# Altium schematic symbol library mcu_stm8.SchLib: 4 symbols
Pins are listed as number, name and electrical type; pins without a type are passive.

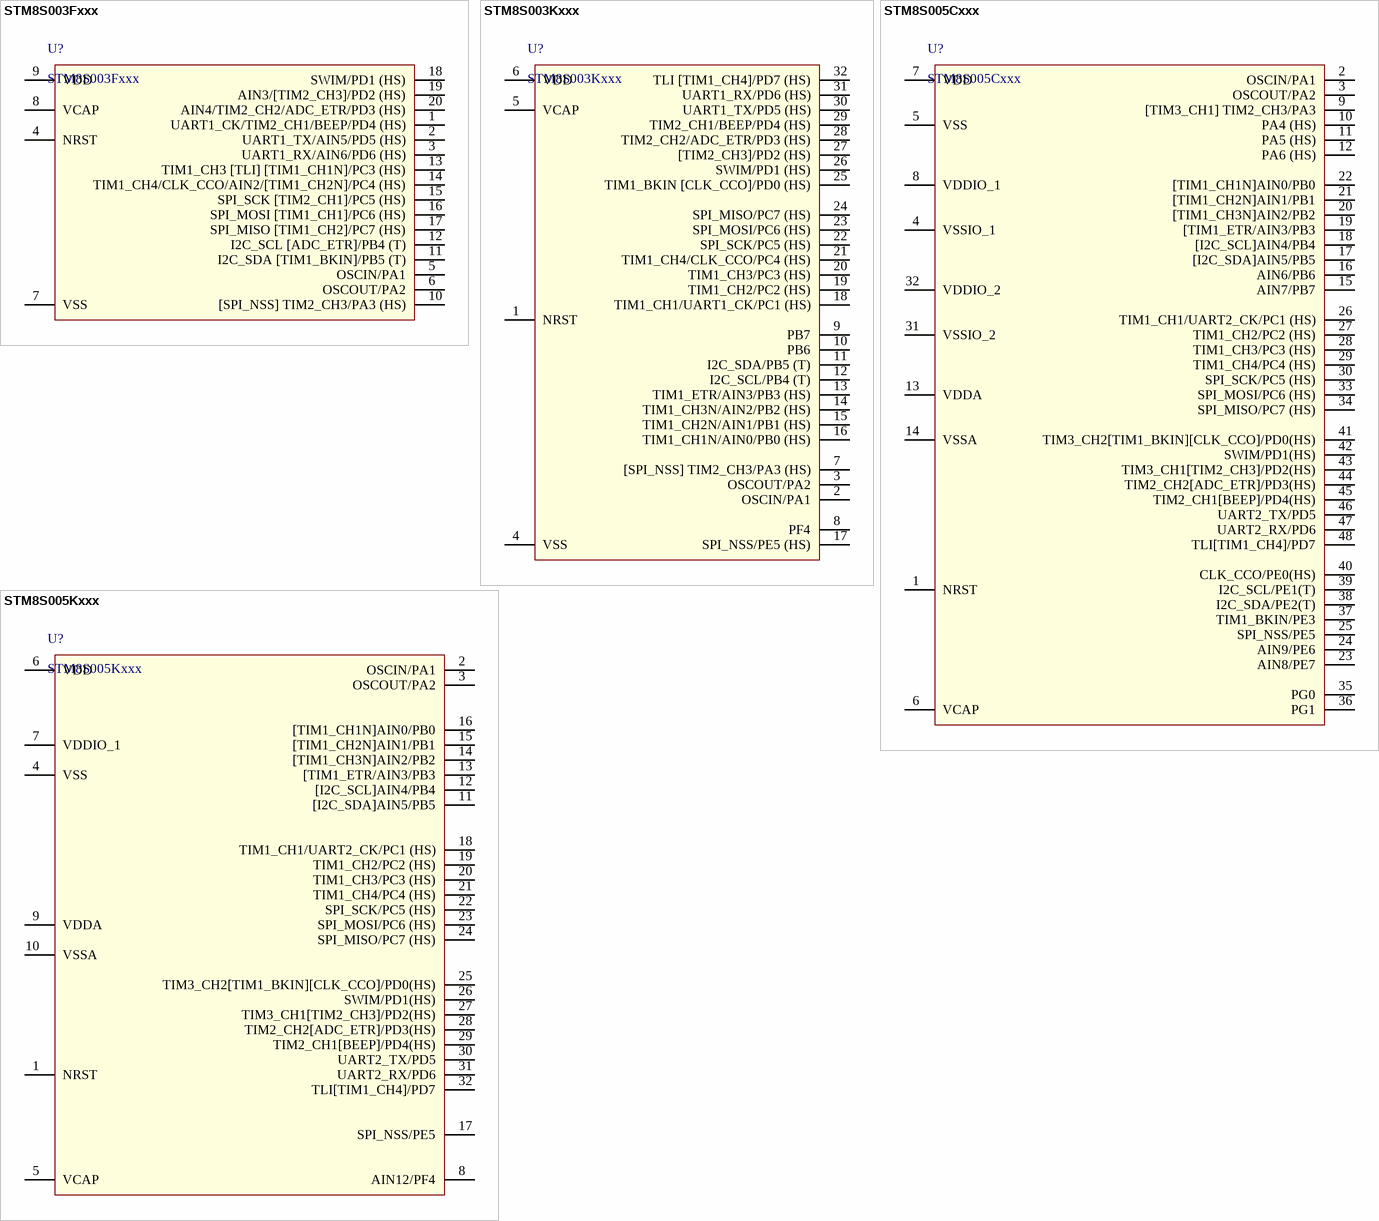
[diagram p0: symbols STM8S003Fxxx to STM8S005Kxxx]

## STM8S003Fxxx
designator U?
Value line, 16 MHz STM8S 8-bit MCU, 8 Kbytes Flash, 128 bytes data EEPROM, 10-bit ADC, 3 timers, UART, SPI, I²C
footprint ST/TSSOP20
pins: 1 UART1_CK/TIM2_CH1/BEEP/PD4 (HS), 2 UART1_TX/AIN5/PD5 (HS), 3 UART1_RX/AIN6/PD6 (HS), 4 NRST, 5 OSCIN/PA1, 6 OSCOUT/PA2, 7 VSS, 8 VCAP, 9 VDD, 10 [SPI_NSS] TIM2_CH3/PA3 (HS), 11 I2C_SDA [TIM1_BKIN]/PB5 (T), 12 I2C_SCL [ADC_ETR]/PB4 (T), 13 TIM1_CH3 [TLI] [TIM1_CH1N]/PC3 (HS), 14 TIM1_CH4/CLK_CCO/AIN2/[TIM1_CH2N]/PC4 (HS), 15 SPI_SCK [TIM2_CH1]/PC5 (HS), 16 SPI_MOSI [TIM1_CH1]/PC6 (HS), 17 SPI_MISO [TIM1_CH2]/PC7 (HS), 18 SWIM/PD1 (HS), 19 AIN3/[TIM2_CH3]/PD2 (HS), 20 AIN4/TIM2_CH2/ADC_ETR/PD3 (HS)

## STM8S003Kxxx
designator U?
Value line, 16 MHz STM8S 8-bit MCU, 8 Kbytes Flash, 128 bytes data EEPROM, 10-bit ADC, 3 timers, UART, SPI, I²C
footprint ST/QFP/80P/32 (TQFP, 32-Leads, Body 9.0x9.0mm (max), Pitch 0.80mm, IPC Medium Density)
pins: 1 NRST, 2 OSCIN/PA1, 3 OSCOUT/PA2, 4 VSS, 5 VCAP, 6 VDD, 7 [SPI_NSS] TIM2_CH3/PA3 (HS), 8 PF4, 9 PB7, 10 PB6, 11 I2C_SDA/PB5 (T), 12 I2C_SCL/PB4 (T), 13 TIM1_ETR/AIN3/PB3 (HS), 14 TIM1_CH3N/AIN2/PB2 (HS), 15 TIM1_CH2N/AIN1/PB1 (HS), 16 TIM1_CH1N/AIN0/PB0 (HS), 17 SPI_NSS/PE5 (HS), 18 TIM1_CH1/UART1_CK/PC1 (HS), 19 TIM1_CH2/PC2 (HS), 20 TIM1_CH3/PC3 (HS), 21 TIM1_CH4/CLK_CCO/PC4 (HS), 22 SPI_SCK/PC5 (HS), 23 SPI_MOSI/PC6 (HS), 24 SPI_MISO/PC7 (HS), 25 TIM1_BKIN [CLK_CCO]/PD0 (HS), 26 SWIM/PD1 (HS), 27 [TIM2_CH3]/PD2 (HS), 28 TIM2_CH2/ADC_ETR/PD3 (HS), 29 TIM2_CH1/BEEP/PD4 (HS), 30 UART1_TX/PD5 (HS), 31 UART1_RX/PD6 (HS), 32 TLI [TIM1_CH4]/PD7 (HS)

## STM8S005Cxxx
designator U?
Value line, 16 MHz STM8S 8-bit MCU, 32 Kbytes Flash, data  EEPROM,10-bit ADC, timers, UART, SPI, I²C
footprint ST/QFP/50P/48 (TSQFP, 48-Leads, Body 9.2x9.2mm (max), Pitch 0.50mm, IPC Medium Density)
pins: 1 NRST, 2 OSCIN/PA1, 3 OSCOUT/PA2, 4 VSSIO_1, 5 VSS, 6 VCAP, 7 VDD, 8 VDDIO_1, 9 [TIM3_CH1] TIM2_CH3/PA3, 10 PA4 (HS), 11 PA5 (HS), 12 PA6 (HS), 13 VDDA, 14 VSSA, 15 AIN7/PB7, 16 AIN6/PB6, 17 [I2C_SDA]AIN5/PB5, 18 [I2C_SCL]AIN4/PB4, 19 [TIM1_ETR/AIN3/PB3, 20 [TIM1_CH3N]AIN2/PB2, 21 [TIM1_CH2N]AIN1/PB1, 22 [TIM1_CH1N]AIN0/PB0, 23 AIN8/PE7, 24 AIN9/PE6, 25 SPI_NSS/PE5, 26 TIM1_CH1/UART2_CK/PC1 (HS), 27 TIM1_CH2/PC2 (HS), 28 TIM1_CH3/PC3 (HS), 29 TIM1_CH4/PC4 (HS), 30 SPI_SCK/PC5 (HS), 31 VSSIO_2, 32 VDDIO_2, 33 SPI_MOSI/PC6 (HS), 34 SPI_MISO/PC7 (HS), 35 PG0, 36 PG1, 37 TIM1_BKIN/PE3, 38 I2C_SDA/PE2(T), 39 I2C_SCL/PE1(T), 40 CLK_CCO/PE0(HS), 41 TIM3_CH2[TIM1_BKIN][CLK_CCO]/PD0(HS), 42 SWIM/PD1(HS), 43 TIM3_CH1[TIM2_CH3]/PD2(HS), 44 TIM2_CH2[ADC_ETR]/PD3(HS), 45 TIM2_CH1[BEEP]/PD4(HS), 46 UART2_TX/PD5, 47 UART2_RX/PD6, 48 TLI[TIM1_CH4]/PD7

## STM8S005Kxxx
designator U?
Value line, 16 MHz STM8S 8-bit MCU, 32 Kbytes Flash, data  EEPROM,10-bit ADC, timers, UART, SPI, I²C
footprint ST/QFP/80P/32 (TQFP, 32-Leads, Body 9.0x9.0mm (max), Pitch 0.80mm, IPC Medium Density)
pins: 1 NRST, 2 OSCIN/PA1, 3 OSCOUT/PA2, 4 VSS, 5 VCAP, 6 VDD, 7 VDDIO_1, 8 AIN12/PF4, 9 VDDA, 10 VSSA, 11 [I2C_SDA]AIN5/PB5, 12 [I2C_SCL]AIN4/PB4, 13 [TIM1_ETR/AIN3/PB3, 14 [TIM1_CH3N]AIN2/PB2, 15 [TIM1_CH2N]AIN1/PB1, 16 [TIM1_CH1N]AIN0/PB0, 17 SPI_NSS/PE5, 18 TIM1_CH1/UART2_CK/PC1 (HS), 19 TIM1_CH2/PC2 (HS), 20 TIM1_CH3/PC3 (HS), 21 TIM1_CH4/PC4 (HS), 22 SPI_SCK/PC5 (HS), 23 SPI_MOSI/PC6 (HS), 24 SPI_MISO/PC7 (HS), 25 TIM3_CH2[TIM1_BKIN][CLK_CCO]/PD0(HS), 26 SWIM/PD1(HS), 27 TIM3_CH1[TIM2_CH3]/PD2(HS), 28 TIM2_CH2[ADC_ETR]/PD3(HS), 29 TIM2_CH1[BEEP]/PD4(HS), 30 UART2_TX/PD5, 31 UART2_RX/PD6, 32 TLI[TIM1_CH4]/PD7